# Altium integrated library Rosenberger QMA.IntLib: 8 symbols
Pins are listed as number, name and electrical type; pins without a type are passive.

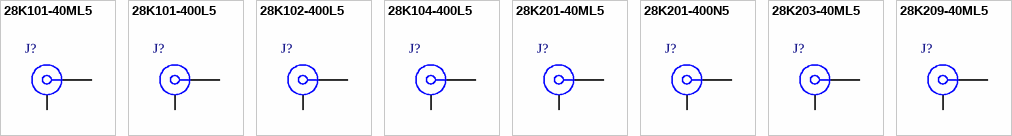
[diagram p0: symbols 28K101-40ML5 to 28K209-40ML5]

## 28K101-40ML5
designator J?
QMA Straight Jack, High Power, Up to 18 GHz, -40 to 85 degC; PartNumber: 28K101-40ML5; Design Note: Footprint in library is a generic example - only application specific footprint delivers High Performance; DatasheetVersion: e00; PackageVersion: e00; PackageReference: 28K101-40ML5; PackageDescription: QMA Straight Jack, 6.35 x 6.35 x 11 mm; Mounting Technology: Surface Mount; ComponentLink1Description: Manufacturer URL; ComponentLink1URL: http://www.rosenberger.de; ComponentLink2Description: Datasheet; ComponentLink2URL: http://rosenberger.de/ok/images/documents/db/28K101-40ML5.pdf; ComponentLink3Description: Package Specification; ComponentLink3URL: http://rosenberger.de/ok/images/documents/db/28K101-40ML5.pdf; ComponentLink4Description: Series Overview / Design Note; ComponentLink4URL: http://rosenberger.de/ok/images/documents/spez/28.pdf; ComponentLink5Description: Webshop / RFQ; ComponentLink5URL: http://www.rosenberger.com/en/contact/sales/
footprint ROS-28K101-40ML5_V (QMA Straight Jack, 6.35x6.35x11mm, Rosenberger Recommended)
pins: 1, MP

## 28K101-400L5
designator J?
QMA Straight Jack, High Power, Up to 18 GHz, -40 to 85 degC; PartNumber: 28K101-400L5; Design Note: Footprint in library is a generic example - only application specific footprint delivers High Performance; DatasheetVersion: e00; PackageVersion: e00; PackageReference: 28K101-400L5; PackageDescription: QMA Straight Jack, 6.35 x 6.35 x 11 mm; Mounting Technology: Through Hole; ComponentLink1Description: Manufacturer URL; ComponentLink1URL: http://www.rosenberger.de; ComponentLink2Description: Datasheet; ComponentLink2URL: http://rosenberger.de/ok/images/documents/db/28K101-400L5.pdf; ComponentLink3Description: Package Specification; ComponentLink3URL: http://rosenberger.de/ok/images/documents/db/28K101-400L5.pdf; ComponentLink4Description: Series Overview / Design Note; ComponentLink4URL: http://rosenberger.de/ok/images/documents/spez/28.pdf; ComponentLink5Description: Webshop / RFQ; ComponentLink5URL: http://www.rosenberger.com/en/contact/sales/
footprint ROS-28K101-400L5_V (QMA Straight Jack, 6.35x6.35x11mm, Rosenberger Recommended)
pins: 1, MH

## 28K102-400L5
designator J?
QMA Straight Jack, Pin in Paste, Up to 18 GHz, -40 to 85 degC; PartNumber: 28K102-400L5; Design Note: Footprint in library is a generic example - only application specific footprint delivers High Performance; DatasheetVersion: b00; PackageVersion: b00; PackageReference: 28K102-400L5; PackageDescription: QMA Straight Jack, Pin In Paste, 6.35 x 6.35 x 11 mm; Mounting Technology: Pin-in-Paste; ComponentLink1Description: Manufacturer URL; ComponentLink1URL: http://www.rosenberger.de; ComponentLink2Description: Datasheet; ComponentLink2URL: http://rosenberger.de/ok/images/documents/db/28K102-400L5.pdf; ComponentLink3Description: Package Specification; ComponentLink3URL: http://rosenberger.de/ok/images/documents/db/28K102-400L5.pdf; ComponentLink4Description: Series Overview / Design Note; ComponentLink4URL: http://rosenberger.de/ok/images/documents/spez/28.pdf; ComponentLink5Description: Webshop / RFQ; ComponentLink5URL: http://www.rosenberger.com/en/contact/sales/
footprint ROS-28K102-400L5_V (QMA Straight Jack, Pin in Paste, 6.35x6.35x11mm, Rosenberger Recommended)
pins: 1, MH

## 28K104-400L5
designator J?
QMA Straight Jack, Up to 18 GHz, -40 to 85 degC; PartNumber: 28K104-400L5; Design Note: Footprint in library is a generic example - only application specific footprint delivers High Performance; DatasheetVersion: d00; PackageVersion: d00; PackageReference: 28K104-400L5; PackageDescription: QMA Straight Jack, 6.35 x 6.35 x 11 mm; Mounting Technology: Through Hole; ComponentLink1Description: Manufacturer URL; ComponentLink1URL: http://www.rosenberger.de; ComponentLink2Description: Datasheet; ComponentLink2URL: http://rosenberger.de/ok/images/documents/db/28K104-400L5.pdf; ComponentLink3Description: Package Specification; ComponentLink3URL: http://rosenberger.de/ok/images/documents/db/28K104-400L5.pdf; ComponentLink4Description: Series Overview / Design Note; ComponentLink4URL: http://rosenberger.de/ok/images/documents/spez/28.pdf; ComponentLink5Description: Webshop / RFQ; ComponentLink5URL: http://www.rosenberger.com/en/contact/sales/
footprint ROS-28K104-400L5_V (QMA Straight Jack, 6.35x6.35x11mm, Rosenberger Recommended)
pins: 1, MH

## 28K201-40ML5
designator J?
QMA Right Angle, Pin in Paste, Up to 18 GHz, -40 to 85 degC; PartNumber: 28K201-40ML5; Design Note: Footprint in library is a generic example - only application specific footprint delivers High Performance; DatasheetVersion: b00; PackageVersion: b00; PackageReference: 28K201-40ML5; PackageDescription: QMA Right Angle Jack, 13.5 x 24.2 x 7.8 mm; Mounting Technology: Pin-in-Paste; ComponentLink1Description: Manufacturer URL; ComponentLink1URL: http://www.rosenberger.de; ComponentLink2Description: Datasheet; ComponentLink2URL: http://rosenberger.de/ok/images/documents/db/28K201-40ML5.pdf; ComponentLink3Description: Package Specification; ComponentLink3URL: http://rosenberger.de/ok/images/documents/db/28K201-40ML5.pdf; ComponentLink4Description: Series Overview / Design Note; ComponentLink4URL: http://rosenberger.de/ok/images/documents/spez/28.pdf; ComponentLink5Description: Webshop / RFQ; ComponentLink5URL: http://www.rosenberger.com/en/contact/sales/
footprint ROS-28K201-40ML5_V (QMA Right Angle Jack Pin in Paste, 13.5x24.2x7.8mm, Rosenberger Recommended)
pins: 1, MP

## 28K201-400N5
designator J?
QMA Right Angle Jack, Up to 18 GHz, -40 to 85 degC; PartNumber: 28K201-400N5; Design Note: Footprint in library is a generic example - only application specific footprint delivers High Performance; DatasheetVersion: e00; PackageVersion: e00; PackageReference: 28K201-400N5; PackageDescription: QMA Right Angle Jack, 6.35 x 17.85 x 9.7 mm; Mounting Technology: Through Hole; ComponentLink1Description: Manufacturer URL; ComponentLink1URL: http://www.rosenberger.de; ComponentLink2Description: Datasheet; ComponentLink2URL: http://rosenberger.de/ok/images/documents/db/28K201-400N5.pdf; ComponentLink3Description: Package Specification; ComponentLink3URL: http://rosenberger.de/ok/images/documents/db/28K201-400N5.pdf; ComponentLink4Description: Series Overview / Design Note; ComponentLink4URL: http://rosenberger.de/ok/images/documents/spez/28.pdf; ComponentLink5Description: Webshop / RFQ; ComponentLink5URL: http://www.rosenberger.com/en/contact/sales/
footprint ROS-28K201-400N5_V (QMA Right Angle Jack, 6.35x17.85x9.7mm, Rosenberger Recommended)
pins: 1, MH

## 28K203-40ML5
designator J?
QMA Right Angle Jack, Edge Mount, Up to 18 GHz, -40 to 85 degC; PartNumber: 28K203-40ML5; Design Note 1: Footprint in library is a generic example - only application specific footprint delivers High Performance; Desgin Note 2: For more information about DRC setting, please look at following webpage, http://techdocs.altium.com/display/SCRT/Design+Rule+for+Edge-Mount+Connectors; DatasheetVersion: a00; PackageVersion: a00; PackageReference: 28K203-40ML5; PackageDescription: QMA Right Angle Jack, Edge Mount, 9 x 18.2 x 3.78 mm; Mounting Technology: Surface Mount; ComponentLink1Description: Manufacturer URL; ComponentLink1URL: http://www.rosenberger.de; ComponentLink2Description: Datasheet; ComponentLink2URL: http://rosenberger.de/ok/images/documents/db/28K203-40ML5.pdf; ComponentLink3Description: Package Specification; ComponentLink3URL: http://rosenberger.de/ok/images/documents/db/28K203-40ML5.pdf; ComponentLink4Description: Series Overview / Design Note; ComponentLink4URL: http://rosenberger.de/ok/images/documents/spez/28.pdf; ComponentLink5Description: Webshop / RFQ; ComponentLink5URL: http://www.rosenberger.com/en/contact/sales/
footprint ROS-28K203-40ML5_V (QMA Right Angle Jack, Edge Mount, 9x18.2x3.78mm, Rosenberger Recommended)
pins: 1, MP

## 28K209-40ML5
designator J?
QMA Right Angle Jack, Edge Mount, Up to 18 GHz, -40 to 85 degC; PartNumber: 28K209-40ML5; Design Note 1: Footprint in library is a generic example - only application specific footprint delivers High Performance; Desgin Note 2: For more information about DRC setting, please look at following webpage, http://techdocs.altium.com/display/SCRT/Design+Rule+for+Edge-Mount+Connectors; DatasheetVersion: c00; PackageVersion: c00; PackageReference: 28K209-40ML5; PackageDescription: QMA Right Angle Jack, 27.15 x 9.75 x 6.61 mm; Mounting Technology: Surface Mount; ComponentLink1Description: Manufacturer URL; ComponentLink1URL: http://www.rosenberger.de; ComponentLink2Description: Datasheet; ComponentLink2URL: http://rosenberger.de/ok/images/documents/db/28K209-40ML5.pdf; ComponentLink3Description: Package Specification; ComponentLink3URL: http://rosenberger.de/ok/images/documents/db/28K209-40ML5.pdf; ComponentLink4Description: Series Overview / Design Note; ComponentLink4URL: http://rosenberger.de/ok/images/documents/spez/28.pdf; ComponentLink5Description: Webshop / RFQ; ComponentLink5URL: http://www.rosenberger.com/en/contact/sales/
footprint ROS-28K209-40ML5_V (QMA Right Angle Jack, 27.15x9.75x6.61mm, Rosenberger Recommended)
pins: 1, MP